# EAGLE library part RECEPTICAL-2X3-254MM-PIZERO-RUN (library daqcs)
.100” [2.54 mm] Contact Centers, Female Headers, Straight/Right Angle/SMT
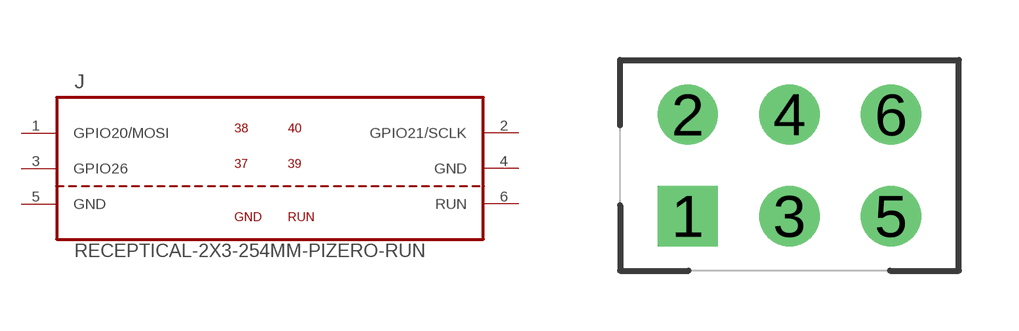
[diagram p15: symbol with the pads of RECEPTACLE-2X3-254MM; footprint RECEPTACLE-2X3-254MM]

Designator prefix J

## RECEPTICAL-2X3-254MM-PIZERO-RUN_2X3_254MM_TH (DATASHEET: HW/docs/projects/raspi_zero_power_sensor_hat/datasheets/connectors/raspi_header/78_P\(N\)PxCxxxLFBN-RC\,_10492-H.pdf; FINISH: GOLD; MANUFACTURER: Sullins; MANUFACTURER_PN: PPPC032LFBN-RC; MAX_CURRENT: 3.0A; MOUNT_ANGLE: VERTICAL; MOUNT_TYPE: TH; PITCH: 2.54mm; POSITIONS: 6; ROWS: 2; VALUE: RECEPTACLE-2x3-2.54MM; VENDOR: Digi-key; VENDOR_PN: S7106-ND)  [RECEPTACLE-2X3-254MM]
1  GPIO20/MOSI
2  GPIO21/SCLK
3  GPIO26
4  GND
5  GND
6  RUN

## Footprint RECEPTACLE-2X3-254MM (pad centres in mm)
drill 1 pad 1.5 square: 1 -2.54,-1.27
drill 1 pad 1.5: 2 -2.54,1.27; 3 0,-1.27; 4 0,1.27; 5 2.54,-1.27; 6 2.54,1.27